# Altium integrated library Allegro Interface DC Motor Controller Driver.IntLib: 17 symbols
Pins are listed as number, name and electrical type; pins without a type are passive.

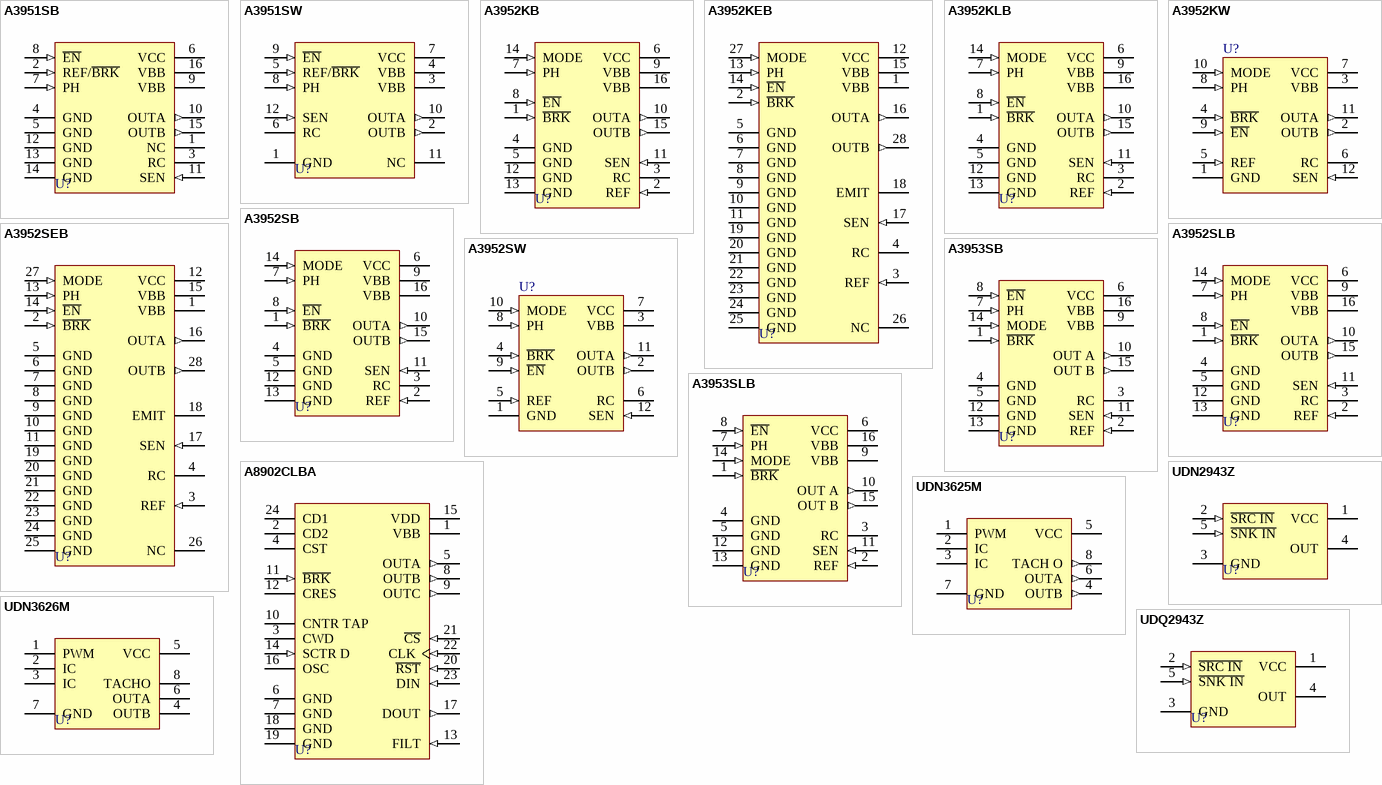
[diagram p0: symbols A3951SB to UDQ2943Z]

## A3951SB
designator U?
Full-Bridge PWM Motor Driver; Note: Pins (4,5) and (12,13) exist as TABS; all are internally connected (GND).; ComponentAvailability: Obsolete; Published: 13-Oct-2000; LatestRevisionDate: 06-Jun-2005; LatestRevisionNote: Stylized 3D Model Added.; DatasheetVersion: 1994; PackageVersion: 1994; PackageReference: B16; Publisher: Altium Limited; PackageDescription: DIP; 16 Leads; Row Spacing 7.62 mm; Pitch 2.54 mm; Code_JEDEC: MS-001-BB; ComponentLink1Description: Manufacturer Link; ComponentLink1URL: http://www.allegromicro.com/; ComponentLink2Description: Datasheet; ComponentLink2URL: http://www.allegromicro.com/datafile/archive/3951.pdf
footprint B16 (DIP; 16 Leads; Row Spacing 7.62 mm; Pitch 2.54 mm)
3D model B16 (DIP; 16 Leads; Row Spacing 7.62 mm; Pitch 2.54 mm)
pins: 1 NC, 2 REF/~{BRK} (in), 3 RC, 4 GND (power), 5 GND (power), 6 VCC (power), 7 PH (in), 8 ~{EN} (in), 9 VBB (power), 10 OUTA (out), 11 SEN (in), 12 GND (power), 13 GND (power), 14 GND (power), 15 OUTB (out), 16 VBB (power)

## A3951SW
designator U?
Full-Bridge PWM Motor Driver; ComponentAvailability: Obsolete; Published: 13-Oct-2000; LatestRevisionDate: 17-Jul-2002; LatestRevisionNote: Re-released for DXP Platform.; DatasheetVersion: 1994; PackageVersion: 1994; PackageReference: W12; Publisher: Altium Limited; PackageDescription: TO, Thru-Hole, Vertical, Heatsink Mounted; 12 In-Line Leads; Pitch 2.54 mm; ComponentLink1Description: Manufacturer Link; ComponentLink1URL: http://www.allegromicro.com/; ComponentLink2Description: Datasheet; ComponentLink2URL: http://www.allegromicro.com/datafile/archive/3951.pdf
footprint W12 (TO, Thru-Hole, Vertical, Heatsink Mounted; 12 In-Line Leads; Pitch 2.54 mm)
pins: 1 GND (power), 2 OUTB (out), 3 VBB (power), 4 VBB (power), 5 REF/~{BRK} (in), 6 RC, 7 VCC (power), 8 PH (in), 9 ~{EN} (in), 10 OUTA (out), 11 NC, 12 SEN (in)

## A3952KB
designator U?
Full-Bridge PWM Motor Driver; Note: Pins (4,5) and (12,13) exist as TABS; all are internally connected (GND).; ComponentAvailability: Obsolete; Published: 13-Oct-2000; LatestRevisionDate: 06-Jun-2005; LatestRevisionNote: Stylized 3D Model Added.; DatasheetVersion: 1995; PackageVersion: 1994; PackageReference: B16; Publisher: Altium Limited; PackageDescription: DIP; 16 Leads; Row Spacing 7.62 mm; Pitch 2.54 mm; Code_JEDEC: MS-001-BB; ComponentLink1Description: Manufacturer Link; ComponentLink1URL: http://www.allegromicro.com/; ComponentLink2Description: Datasheet; ComponentLink2URL: http://www.allegromicro.com/datafile/archive/3952.pdf
footprint B16 (DIP; 16 Leads; Row Spacing 7.62 mm; Pitch 2.54 mm)
3D model B16 (DIP; 16 Leads; Row Spacing 7.62 mm; Pitch 2.54 mm)
pins: 1 ~{BRK} (in), 2 REF (in), 3 RC, 4 GND (power), 5 GND (power), 6 VCC (power), 7 PH (in), 8 ~{EN} (in), 9 VBB (power), 10 OUTA (out), 11 SEN (in), 12 GND (power), 13 GND (power), 14 MODE (in), 15 OUTB (out), 16 VBB (power)

## A3952KEB
designator U?
Full-Bridge PWM Motor Driver; Note: Pins (5-11) and (19-25) exist as TABS; all are internally connected (GND).; ComponentAvailability: Obsolete; Published: 13-Oct-2000; LatestRevisionDate: 13-Apr-2006; LatestRevisionNote: IPC-7351 Footprint Added.; DatasheetVersion: 1995; PackageVersion: 1994; PackageReference: EB28; Publisher: Altium Limited; PackageDescription: 28-Pin Leaded Chip Carrier 1.27 mm Pitch; Code_IPC: PLCC-28; ComponentLink1Description: Manufacturer Link; ComponentLink1URL: http://www.allegromicro.com/; ComponentLink2Description: Datasheet; ComponentLink2URL: http://www.allegromicro.com/datafile/archive/3952.pdf
footprint EB28_N (Leaded Chip Carrier, 28-Leads, Body 11.5x11.5mm, Pitch 1.27mm, IPC Medium Density)
footprint EB28_L (Leaded Chip Carrier, 28-Leads, Body 11.5x11.5mm, Pitch 1.27mm, IPC High Density)
footprint EB28_M (Leaded Chip Carrier, 28-Leads, Body 11.5x11.5mm, Pitch 1.27mm, IPC Low Density)
3D model A3952-EB28 (28-Pin Leaded Chip Carrier 1.27 mm Pitch)
pins: 1 VBB (power), 2 ~{BRK} (in), 3 REF (in), 4 RC, 5 GND (power), 6 GND (power), 7 GND (power), 8 GND (power), 9 GND (power), 10 GND (power), 11 GND (power), 12 VCC (power), 13 PH (in), 14 ~{EN} (in), 15 VBB (power), 16 OUTA (out), 17 SEN (in), 18 EMIT, 19 GND (power), 20 GND (power), 21 GND (power), 22 GND (power), 23 GND (power), 24 GND (power), 25 GND (power), 26 NC, 27 MODE (in), 28 OUTB (out)

## A3952KLB
designator U?
Full-Bridge PWM Motor Driver; Note: Pins (4,5) and (12,13) exist as TABS; all are internally connected (GND).; ComponentAvailability: Obsolete; Published: 13-Oct-2000; LatestRevisionDate: 13-Apr-2006; LatestRevisionNote: IPC-7351 Footprint Added.; DatasheetVersion: 1995; PackageReference: LB16; Publisher: Altium Limited; PackageDescription: 16-Pin Small Outline Integrated Circuit 1.27 mm Pitch; Code_JEDEC: MS-013-AA; Code_IPC: SOIC127P1030-16; ComponentLink1Description: Manufacturer Link; ComponentLink1URL: http://www.allegromicro.com/; ComponentLink2Description: Datasheet; ComponentLink2URL: http://www.allegromicro.com/datafile/archive/3952.pdf
footprint LB16_N (SOIC, 16-Leads, Body 10.3x7.5mm, Pitch 1.27mm, IPC Medium Density)
footprint LB16_L (SOIC, 16-Leads, Body 10.3x7.5mm, Pitch 1.27mm, IPC High Density)
footprint LB16_M (SOIC, 16-Leads, Body 10.3x7.5mm, Pitch 1.27mm, IPC Low Density)
3D model LB16 (16-Pin Small Outline Integrated Circuit 1.27 mm Pitch)
pins: 1 ~{BRK} (in), 2 REF (in), 3 RC, 4 GND (power), 5 GND (power), 6 VCC (power), 7 PH (in), 8 ~{EN} (in), 9 VBB (power), 10 OUTA (out), 11 SEN (in), 12 GND (power), 13 GND (power), 14 MODE (in), 15 OUTB (out), 16 VBB (power)

## A3952KW
designator U?
Full-Bridge PWM Motor Driver; ComponentAvailability: Obsolete; Published: 13-Oct-2000; LatestRevisionDate: 17-Jul-2002; LatestRevisionNote: Re-released for DXP Platform.; DatasheetVersion: 1995; PackageVersion: 1994; PackageReference: W12; Publisher: Altium Limited; PackageDescription: TO, Thru-Hole, Vertical, Heatsink Mounted; 12 In-Line Leads; Pitch 2.54 mm; ComponentLink1Description: Manufacturer Link; ComponentLink1URL: http://www.allegromicro.com/; ComponentLink2Description: Datasheet; ComponentLink2URL: http://www.allegromicro.com/datafile/archive/3952.pdf
footprint W12 (TO, Thru-Hole, Vertical, Heatsink Mounted; 12 In-Line Leads; Pitch 2.54 mm)
pins: 1 GND (power), 2 OUTB (out), 3 VBB (power), 4 ~{BRK} (in), 5 REF (in), 6 RC, 7 VCC (power), 8 PH (in), 9 ~{EN} (in), 10 MODE (in), 11 OUTA (out), 12 SEN (in)

## A3952SB
designator U?
Full-Bridge PWM Motor Driver; Note: Pins (4,5) and (12,13) exist as TABS; all are internally connected (GND).; ComponentAvailability: Obsolete; Published: 13-Oct-2000; LatestRevisionDate: 06-Jun-2005; LatestRevisionNote: Stylized 3D Model Added.; DatasheetVersion: 1994; PackageVersion: 1994; PackageReference: B16; Publisher: Altium Limited; PackageDescription: DIP; 16 Leads; Row Spacing 7.62 mm; Pitch 2.54 mm; Code_JEDEC: MS-001-BB; ComponentLink1Description: Manufacturer Link; ComponentLink1URL: http://www.allegromicro.com/; ComponentLink2Description: Datasheet; ComponentLink2URL: http://www.allegromicro.com/datafile/archive/3952.pdf; ComponentLink3Description: Discontinuation Notice; ComponentLink3URL: http://www.allegromicro.com/techpub2/3952_3959_app_note/
footprint B16 (DIP; 16 Leads; Row Spacing 7.62 mm; Pitch 2.54 mm)
3D model B16 (DIP; 16 Leads; Row Spacing 7.62 mm; Pitch 2.54 mm)
pins: 1 ~{BRK} (in), 2 REF (in), 3 RC, 4 GND (power), 5 GND (power), 6 VCC (power), 7 PH (in), 8 ~{EN} (in), 9 VBB (power), 10 OUTA (out), 11 SEN (in), 12 GND (power), 13 GND (power), 14 MODE (in), 15 OUTB (out), 16 VBB (power)

## A3952SEB
designator U?
Full-Bridge PWM Motor Driver; Note: Pins 5-11 and 19-25 are connected; ComponentAvailability: Obsolete; Published: 13-Oct-2000; LatestRevisionDate: 13-Apr-2006; LatestRevisionNote: IPC-7351 Footprint Added.; DatasheetVersion: 1994; PackageVersion: 1994; PackageReference: EB28; Publisher: Altium Limited; PackageDescription: 28-Pin Leaded Chip Carrier 1.27 mm Pitch; Code_IPC: PLCC-28; ComponentLink1Description: Manufacturer Link; ComponentLink1URL: http://www.allegromicro.com/; ComponentLink2Description: Datasheet; ComponentLink2URL: http://www.allegromicro.com/datafile/archive/3952.pdf; ComponentLink3Description: Discontinuation Notice; ComponentLink3URL: http://www.allegromicro.com/techpub2/3952_3959_app_note/
footprint EB28_N (Leaded Chip Carrier, 28-Leads, Body 11.5x11.5mm, Pitch 1.27mm, IPC Medium Density)
footprint EB28_L (Leaded Chip Carrier, 28-Leads, Body 11.5x11.5mm, Pitch 1.27mm, IPC High Density)
footprint EB28_M (Leaded Chip Carrier, 28-Leads, Body 11.5x11.5mm, Pitch 1.27mm, IPC Low Density)
3D model A3952-EB28 (28-Pin Leaded Chip Carrier 1.27 mm Pitch)
pins: 1 VBB (power), 2 ~{BRK} (in), 3 REF (in), 4 RC, 5 GND (power), 6 GND (power), 7 GND (power), 8 GND (power), 9 GND (power), 10 GND (power), 11 GND (power), 12 VCC (power), 13 PH (in), 14 ~{EN} (in), 15 VBB (power), 16 OUTA (out), 17 SEN (in), 18 EMIT, 19 GND (power), 20 GND (power), 21 GND (power), 22 GND (power), 23 GND (power), 24 GND (power), 25 GND (power), 26 NC, 27 MODE (in), 28 OUTB (out)

## A3952SLB
designator U?
Full-Bridge PWM Motor Driver; Note: Pins (4,5) and (12,13) exist as TABS; all are internally connected (GND).; ComponentAvailability: Obsolete; Published: 13-Oct-2000; LatestRevisionDate: 13-Apr-2006; LatestRevisionNote: IPC-7351 Footprint Added.; DatasheetVersion: 1994; PackageReference: LB16; Publisher: Altium Limited; PackageDescription: 16-Pin Small Outline Integrated Circuit 1.27 mm Pitch; Code_JEDEC: MS-013-AA; Code_IPC: SOIC127P1030-16; ComponentLink1Description: Manufacturer Link; ComponentLink1URL: http://www.allegromicro.com/; ComponentLink2Description: Datasheet; ComponentLink2URL: http://www.allegromicro.com/datafile/archive/3952.pdf; ComponentLink3Description: Discontinuation Notice; ComponentLink3URL: http://www.allegromicro.com/techpub2/3952_3959_app_note/
footprint LB16_N (SOIC, 16-Leads, Body 10.3x7.5mm, Pitch 1.27mm, IPC Medium Density)
footprint LB16_L (SOIC, 16-Leads, Body 10.3x7.5mm, Pitch 1.27mm, IPC High Density)
footprint LB16_M (SOIC, 16-Leads, Body 10.3x7.5mm, Pitch 1.27mm, IPC Low Density)
3D model LB16 (16-Pin Small Outline Integrated Circuit 1.27 mm Pitch)
pins: 1 ~{BRK} (in), 2 REF (in), 3 RC, 4 GND (power), 5 GND (power), 6 VCC (power), 7 PH (in), 8 ~{EN} (in), 9 VBB (power), 10 OUTA (out), 11 SEN (in), 12 GND (power), 13 GND (power), 14 MODE (in), 15 OUTB (out), 16 VBB (power)

## A3952SW
designator U?
Full-Bridge PWM Motor Driver; ComponentAvailability: Obsolete; Published: 13-Oct-2000; LatestRevisionDate: 17-Jul-2002; LatestRevisionNote: Re-released for DXP Platform.; DatasheetVersion: 1994; PackageVersion: 1994; PackageReference: W12; Publisher: Altium Limited; PackageDescription: TO, Thru-Hole, Vertical, Heatsink Mounted; 12 In-Line Leads; Pitch 2.54 mm; ComponentLink1Description: Manufacturer Link; ComponentLink1URL: http://www.allegromicro.com/; ComponentLink2Description: Datasheet; ComponentLink2URL: http://www.allegromicro.com/datafile/archive/3952.pdf; ComponentLink3Description: Discontinuation Notice; ComponentLink3URL: http://www.allegromicro.com/techpub2/3952_3959_app_note/
footprint W12 (TO, Thru-Hole, Vertical, Heatsink Mounted; 12 In-Line Leads; Pitch 2.54 mm)
pins: 1 GND (power), 2 OUTB (out), 3 VBB (power), 4 ~{BRK} (in), 5 REF (in), 6 RC, 7 VCC (power), 8 PH (in), 9 ~{EN} (in), 10 MODE (in), 11 OUTA (out), 12 SEN (in)

## A3953SB
designator U?
Full-Bridge PWM Motor Driver; Note: Pins (4,5) and (12,13) exist as TABS; all are internally connected (GND).; Published: 13-Oct-2000; LatestRevisionDate: 06-Jun-2005; LatestRevisionNote: Stylized 3D Model Added.; DatasheetVersion: 1995; PackageVersion: 1994; PackageReference: B16; Publisher: Altium Limited; PackageDescription: DIP; 16 Leads; Row Spacing 7.62 mm; Pitch 2.54 mm; Code_JEDEC: MS-001-BB; ComponentLink1Description: Manufacturer Link; ComponentLink1URL: http://www.allegromicro.com/; ComponentLink2Description: Datasheet; ComponentLink2URL: http://www.allegromicro.com/sf/3953/
footprint B16 (DIP; 16 Leads; Row Spacing 7.62 mm; Pitch 2.54 mm)
3D model B16 (DIP; 16 Leads; Row Spacing 7.62 mm; Pitch 2.54 mm)
pins: 1 ~{BRK} (in), 2 REF (in), 3 RC, 4 GND (power), 5 GND (power), 6 VCC (power), 7 PH (in), 8 ~{EN} (in), 9 VBB (power), 10 OUT A (out), 11 SEN (in), 12 GND (power), 13 GND (power), 14 MODE (in), 15 OUT B (out), 16 VBB (power)

## A3953SLB
designator U?
Full-Bridge PWM Motor Driver; Note: Pins (4,5) and (12,13) exist as TABS; all are internally connected (GND).; Published: 13-Oct-2000; LatestRevisionDate: 13-Apr-2006; LatestRevisionNote: IPC-7351 Footprint Added.; DatasheetVersion: 1995; PackageReference: LB16; Publisher: Altium Limited; PackageDescription: 16-Pin Small Outline Integrated Circuit 1.27 mm Pitch; Code_JEDEC: MS-013-AA; Code_IPC: SOIC127P1030-16; ComponentLink1Description: Manufacturer Link; ComponentLink1URL: http://www.allegromicro.com/; ComponentLink2Description: Datasheet; ComponentLink2URL: http://www.allegromicro.com/sf/3953/
footprint LB16_N (SOIC, 16-Leads, Body 10.3x7.5mm, Pitch 1.27mm, IPC Medium Density)
footprint LB16_L (SOIC, 16-Leads, Body 10.3x7.5mm, Pitch 1.27mm, IPC High Density)
footprint LB16_M (SOIC, 16-Leads, Body 10.3x7.5mm, Pitch 1.27mm, IPC Low Density)
3D model LB16 (16-Pin Small Outline Integrated Circuit 1.27 mm Pitch)
pins: 1 ~{BRK} (in), 2 REF (in), 3 RC, 4 GND (power), 5 GND (power), 6 VCC (power), 7 PH (in), 8 ~{EN} (in), 9 VBB (power), 10 OUT A (out), 11 SEN (in), 12 GND (power), 13 GND (power), 14 MODE (in), 15 OUT B (out), 16 VBB (power)

## A8902CLBA
designator U?
3-Phase Brushless DC Motor Controller/Driver with Back-EMF Sensing; Note: Pins (6,7) and (18,19) exist as TABS; all are internally connected (GND).; ComponentAvailability: Obsolete; Published: 13-Oct-2000; LatestRevisionDate: 13-Apr-2006; LatestRevisionNote: IPC-7351 Footprint Added.; DatasheetVersion: 1995; PackageVersion: 1995; PackageReference: LB24; Publisher: Altium Limited; PackageDescription: 24-Pin Small Outline Integrated Circuit 1.27 mm Pitch; ComponentLink1Description: Manufacturer Link; ComponentLink1URL: http://www.allegromicro.com/; ComponentLink2Description: Datasheet; ComponentLink2URL: http://www.allegromicro.com/datafile/archive/89027.pdf
footprint LB24_N (SOIC, 24-Leads, Body 15.4x7.5mm, Pitch 1.27mm, IPC Medium Density)
footprint LB24_L (SOIC, 24-Leads, Body 15.4x7.5mm, Pitch 1.27mm, IPC High Density)
footprint LB24_M (SOIC, 24-Leads, Body 15.4x7.5mm, Pitch 1.27mm, IPC Low Density)
3D model LB24 (24-Pin Small Outline Integrated Circuit 1.27 mm Pitch)
pins: 1 VBB (power), 2 CD2, 3 CWD, 4 CST, 5 OUTA (out), 6 GND (power), 7 GND (power), 8 OUTB (out), 9 OUTC (out), 10 CNTR TAP, 11 ~{BRK} (in), 12 CRES, 13 FILT (in), 14 SCTR D (in), 15 VDD (power), 16 OSC, 17 DOUT (out), 18 GND (power), 19 GND (power), 20 ~{RST} (in), 21 ~{CS} (in), 22 CLK (in), 23 DIN (in), 24 CD1

## UDN2943Z
designator U?
High-Current Half-Bridge Motor Driver; ComponentAvailability: Obsolete; Published: 13-Oct-2000; LatestRevisionDate: 17-Jul-2002; LatestRevisionNote: Re-released for DXP Platform.; DatasheetVersion: 1995; PackageVersion: 1995; PackageReference: Z5; Publisher: Altium Limited; PackageDescription: TO, Thru-Hole, Vertical, Heatsink Mounted; 5 In-Line Leads; Pitch 1.70 mm; Code_JEDEC: TS-001-AA; ComponentLink1Description: Manufacturer Link; ComponentLink1URL: http://www.allegromicro.com/; ComponentLink2Description: Datasheet; ComponentLink2URL: http://www.allegromicro.com/datafile/archive/2943.pdf
footprint Z5 (TO, Thru-Hole, Vertical, Heatsink Mounted; 5 In-Line Leads; Pitch 1.70 mm)
pins: 1 VCC (power), 2 ~{SRC IN} (in), 3 GND (power), 4 OUT (hiz), 5 ~{SNK IN} (in)

## UDN3625M
designator U?
Power Hall Sensor/Driver for Brushless DC Motors; ComponentAvailability: Obsolete; Published: 13-Oct-2000; LatestRevisionDate: 06-Jun-2005; LatestRevisionNote: Stylized 3D Model Added.; DatasheetVersion: 1995; PackageVersion: 1995; PackageReference: M8; Publisher: Altium Limited; PackageDescription: DIP; 8 Leads; Row Spacing 7.62 mm; Pitch 2.54 mm; ComponentLink1Description: Manufacturer Link; ComponentLink1URL: http://www.allegromicro.com/; ComponentLink2Description: Datasheet; ComponentLink2URL: http://www.allegromicro.com/datafile/archive/3625.pdf
footprint M8 (DIP; 8 Leads; Row Spacing 7.62 mm; Pitch 2.54 mm)
3D model M8 (DIP; 8 Leads; Row Spacing 7.62 mm; Pitch 2.54 mm)
pins: 1 PWM, 2 IC, 3 IC, 4 OUTB (out), 5 VCC (power), 6 OUTA (out), 7 GND (power), 8 TACH O (out)

## UDN3626M
designator U?
Power Hall Sensor/Driver for Brushless DC Motors; ComponentAvailability: Obsolete; Published: 13-Oct-2000; LatestRevisionDate: 06-Jun-2005; LatestRevisionNote: Stylized 3D Model Added.; DatasheetVersion: 1995; PackageVersion: 1995; PackageReference: M8; Publisher: Altium Limited; PackageDescription: DIP; 8 Leads; Row Spacing 7.62 mm; Pitch 2.54 mm; ComponentLink1Description: Manufacturer Link; ComponentLink1URL: http://www.allegromicro.com/; ComponentLink2Description: Datasheet; ComponentLink2URL: http://www.allegromicro.com/datafile/archive/3625.pdf
footprint M8 (DIP; 8 Leads; Row Spacing 7.62 mm; Pitch 2.54 mm)
3D model M8 (DIP; 8 Leads; Row Spacing 7.62 mm; Pitch 2.54 mm)
pins: 1 PWM, 2 IC, 3 IC, 4 OUTB (oc), 5 VCC (power), 6 OUTA (oc), 7 GND (power), 8 TACHO

## UDQ2943Z
designator U?
High-Current Half-Bridge Motor Driver; ComponentAvailability: Obsolete; Published: 13-Oct-2000; LatestRevisionDate: 17-Jul-2002; LatestRevisionNote: Re-released for DXP Platform.; DatasheetVersion: 1995; PackageVersion: 1995; PackageReference: Z5; Publisher: Altium Limited; PackageDescription: TO, Thru-Hole, Vertical, Heatsink Mounted; 5 In-Line Leads; Pitch 1.70 mm; Code_JEDEC: TS-001-AA; ComponentLink1Description: Manufacturer Link; ComponentLink1URL: http://www.allegromicro.com/; ComponentLink2Description: Datasheet; ComponentLink2URL: http://www.allegromicro.com/datafile/archive/2943.pdf
footprint Z5 (TO, Thru-Hole, Vertical, Heatsink Mounted; 5 In-Line Leads; Pitch 1.70 mm)
pins: 1 VCC (power), 2 ~{SRC IN} (in), 3 GND (power), 4 OUT (hiz), 5 ~{SNK IN} (in)